# EAGLE library part DSPIC33EP512MU814-X_PH (library dspic33ep)
dsPIC33EP512MU814 16-bit Microcontrollers and Digital Signal Controllers (up to 512 KB Flash and 52 KB SRAM) with High-SpeedPWM, USB, and Advanced Analog
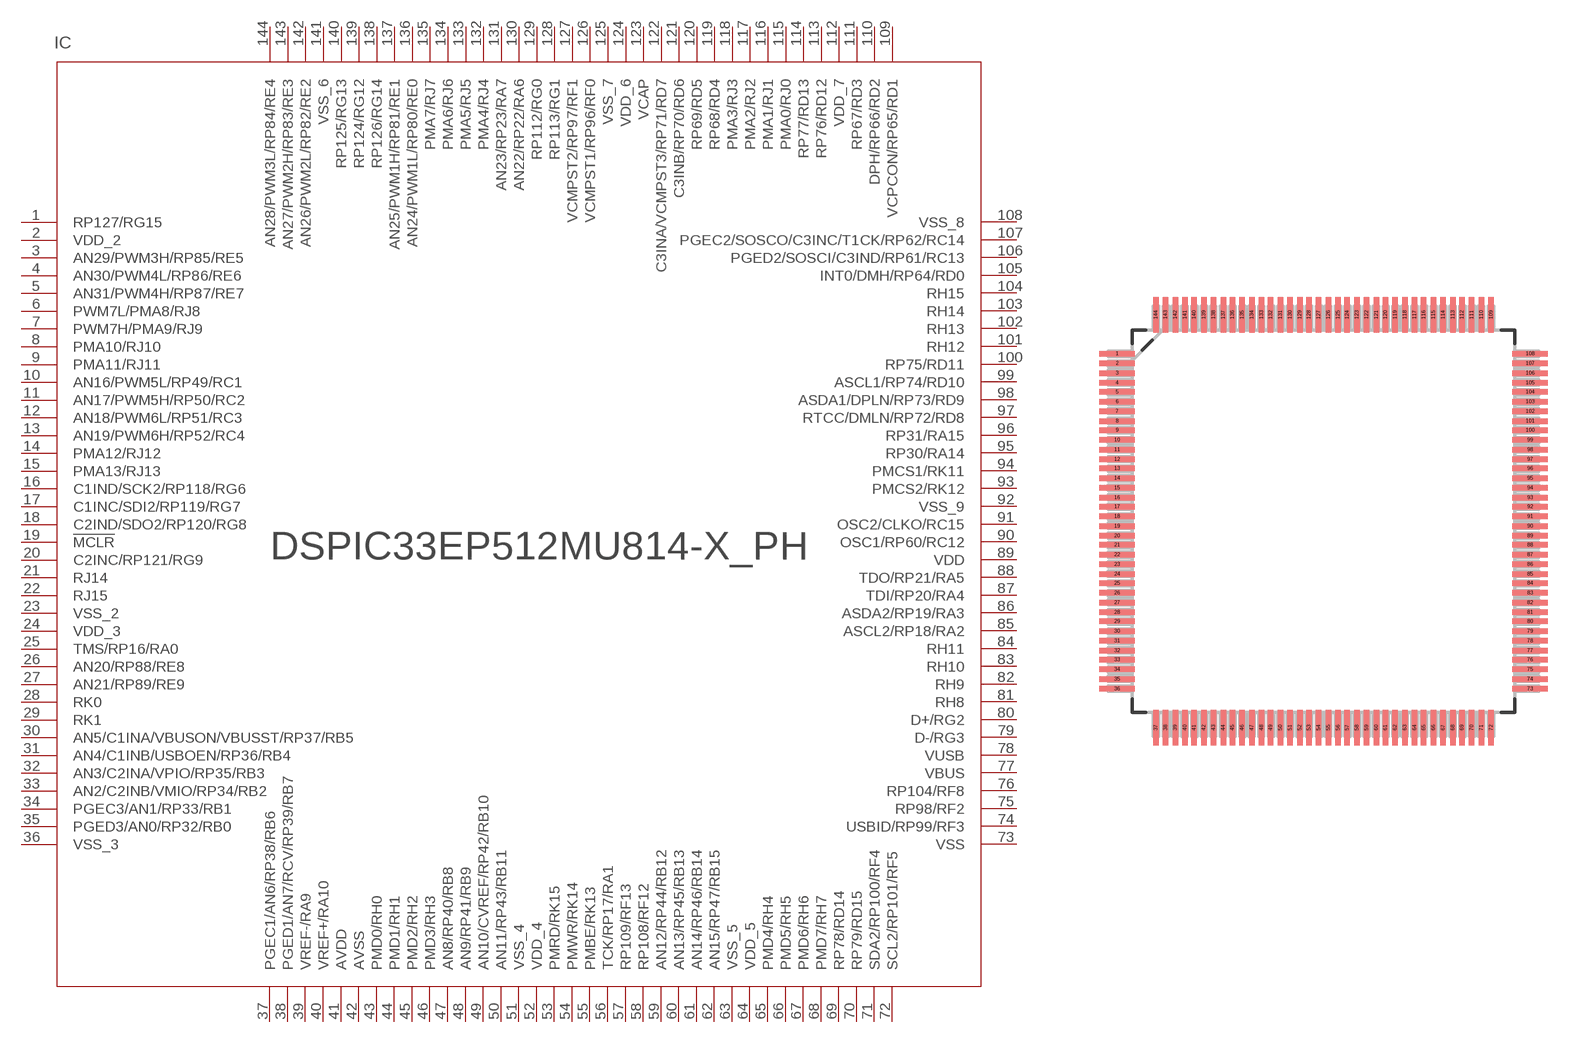
[diagram p0: symbol with the pads of TQFP144_16X16MC; footprint TQFP144_16X16MC]

Designator prefix IC

## DSPIC33EP512MU814-X_PH  [TQFP144_16X16MC]
1  RP127/RG15  pas
2  VDD_2  pwr
3  AN29/PWM3H/RP85/RE5  pas
4  AN30/PWM4L/RP86/RE6  pas
5  AN31/PWM4H/RP87/RE7  pas
6  PWM7L/PMA8/RJ8  pas
7  PWM7H/PMA9/RJ9  pas
8  PMA10/RJ10  pas
9  PMA11/RJ11  pas
10  AN16/PWM5L/RP49/RC1  pas
11  AN17/PWM5H/RP50/RC2  pas
12  AN18/PWM6L/RP51/RC3  pas
13  AN19/PWM6H/RP52/RC4  pas
14  PMA12/RJ12  pas
15  PMA13/RJ13  pas
16  C1IND/SCK2/RP118/RG6  pas
17  C1INC/SDI2/RP119/RG7  pas
18  C2IND/SDO2/RP120/RG8  pas
19  !MCLR  in
20  C2INC/RP121/RG9  pas
21  RJ14  pas
22  RJ15  pas
23  VSS_2  pwr
24  VDD_3  pwr
25  TMS/RP16/RA0  pas
26  AN20/RP88/RE8  pas
27  AN21/RP89/RE9  pas
28  RK0  pas
29  RK1  pas
30  AN5/C1INA/VBUSON/VBUSST/RP37/RB5  pas
31  AN4/C1INB/USBOEN/RP36/RB4  pas
32  AN3/C2INA/VPIO/RP35/RB3  pas
33  AN2/C2INB/VMIO/RP34/RB2  pas
34  PGEC3/AN1/RP33/RB1  pas
35  PGED3/AN0/RP32/RB0  pas
36  VSS_3  pwr
37  PGEC1/AN6/RP38/RB6  pas
38  PGED1/AN7/RCV/RP39/RB7  pas
39  VREF-/RA9  pas
40  VREF+/RA10  pas
41  AVDD  pwr
42  AVSS  pwr
43  PMD0/RH0  pas
44  PMD1/RH1  pas
45  PMD2/RH2  pas
46  PMD3/RH3  pas
47  AN8/RP40/RB8  pas
48  AN9/RP41/RB9  pas
49  AN10/CVREF/RP42/RB10  pas
50  AN11/RP43/RB11  pas
51  VSS_4  pwr
52  VDD_4  pwr
53  PMRD/RK15  pas
54  PMWR/RK14  pas
55  PMBE/RK13  pas
56  TCK/RP17/RA1  pas
57  RP109/RF13  pas
58  RP108/RF12  pas
59  AN12/RP44/RB12  pas
60  AN13/RP45/RB13  pas
61  AN14/RP46/RB14  pas
62  AN15/RP47/RB15  pas
63  VSS_5  pwr
64  VDD_5  pwr
65  PMD4/RH4  pas
66  PMD5/RH5  pas
67  PMD6/RH6  pas
68  PMD7/RH7  pas
69  RP78/RD14  pas
70  RP79/RD15  pas
71  SDA2/RP100/RF4  pas
72  SCL2/RP101/RF5  pas
73  VSS  pwr
74  USBID/RP99/RF3  pas
75  RP98/RF2  pas
76  RP104/RF8  pas
77  VBUS  pwr
78  VUSB  pwr
79  D-/RG3  pas
80  D+/RG2  pas
81  RH8  pas
82  RH9  pas
83  RH10  pas
84  RH11  pas
85  ASCL2/RP18/RA2  pas
86  ASDA2/RP19/RA3  pas
87  TDI/RP20/RA4  pas
88  TDO/RP21/RA5  pas
89  VDD  pwr
90  OSC1/RP60/RC12  pas
91  OSC2/CLKO/RC15  pas
92  VSS_9  pwr
93  PMCS2/RK12  pas
94  PMCS1/RK11  pas
95  RP30/RA14  pas
96  RP31/RA15  pas
97  RTCC/DMLN/RP72/RD8  pas
98  ASDA1/DPLN/RP73/RD9  pas
99  ASCL1/RP74/RD10  pas
100  RP75/RD11  pas
101  RH12  pas
102  RH13  pas
103  RH14  pas
104  RH15  pas
105  INT0/DMH/RP64/RD0  pas
106  PGED2/SOSCI/C3IND/RP61/RC13  pas
107  PGEC2/SOSCO/C3INC/T1CK/RP62/RC14  pas
108  VSS_8  pwr
109  VCPCON/RP65/RD1  pas
110  DPH/RP66/RD2  pas
111  RP67/RD3  pas
112  VDD_7  pwr
113  RP76/RD12  pas
114  RP77/RD13  pas
115  PMA0/RJ0  pas
116  PMA1/RJ1  pas
117  PMA2/RJ2  pas
118  PMA3/RJ3  pas
119  RP68/RD4  pas
120  RP69/RD5  pas
121  C3INB/RP70/RD6  pas
122  C3INA/VCMPST3/RP71/RD7  pas
123  VCAP  pwr
124  VDD_6  pwr
125  VSS_7  pwr
126  VCMPST1/RP96/RF0  pas
127  VCMPST2/RP97/RF1  pas
128  RP113/RG1  pas
129  RP112/RG0  pas
130  AN22/RP22/RA6  pas
131  AN23/RP23/RA7  pas
132  PMA4/RJ4  pas
133  PMA5/RJ5  pas
134  PMA6/RJ6  pas
135  PMA7/RJ7  pas
136  AN24/PWM1L/RP80/RE0  pas
137  AN25/PWM1H/RP81/RE1  pas
138  RP126/RG14  pas
139  RP124/RG12  pas
140  RP125/RG13  pas
141  VSS_6  pwr
142  AN26/PWM2L/RP82/RE2  pas
143  AN27/PWM2H/RP83/RE3  pas
144  AN28/PWM3L/RP84/RE4  pas

## Footprint TQFP144_16X16MC (pad centres in mm)
TQFP144 16X16
smd 1.473 x 0.229: 1 -8.636,7.01; 2 -8.636,6.604; 3 -8.636,6.198; 4 -8.636,5.791; 5 -8.636,5.41; 6 -8.636,5.004; 7 -8.636,4.597; 8 -8.636,4.191; 9 -8.636,3.81; 10 -8.636,3.404; 11 -8.636,2.997; 12 -8.636,2.591; 13 -8.636,2.21; 14 -8.636,1.803; 15 -8.636,1.397; 16 -8.636,0.991; 17 -8.636,0.61; 18 -8.636,0.203; 19 -8.636,-0.203; 20 -8.636,-0.61; 21 -8.636,-0.991; 22 -8.636,-1.397; 23 -8.636,-1.803; 24 -8.636,-2.21; 25 -8.636,-2.591; 26 -8.636,-2.997; 27 -8.636,-3.404; 28 -8.636,-3.81; 29 -8.636,-4.191; 30 -8.636,-4.597; 31 -8.636,-5.004; 32 -8.636,-5.41; 33 -8.636,-5.791; 34 -8.636,-6.198; 35 -8.636,-6.604; 36 -8.636,-7.01; 73 8.636,-7.01; 74 8.636,-6.604; 75 8.636,-6.198; 76 8.636,-5.791; 77 8.636,-5.41; 78 8.636,-5.004; 79 8.636,-4.597; 80 8.636,-4.191; 81 8.636,-3.81; 82 8.636,-3.404; 83 8.636,-2.997; 84 8.636,-2.591; 85 8.636,-2.21; 86 8.636,-1.803; 87 8.636,-1.397; 88 8.636,-0.991; 89 8.636,-0.61; 90 8.636,-0.203; 91 8.636,0.203; 92 8.636,0.61; 93 8.636,0.991; 94 8.636,1.397; 95 8.636,1.803; 96 8.636,2.21; 97 8.636,2.591; 98 8.636,2.997; 99 8.636,3.404; 100 8.636,3.81; 101 8.636,4.191; 102 8.636,4.597; 103 8.636,5.004; 104 8.636,5.41; 105 8.636,5.791; 106 8.636,6.198; 107 8.636,6.604; 108 8.636,7.01
smd 0.229 x 1.473: 37 -7.01,-8.636; 38 -6.604,-8.636; 39 -6.198,-8.636; 40 -5.791,-8.636; 41 -5.41,-8.636; 42 -5.004,-8.636; 43 -4.597,-8.636; 44 -4.191,-8.636; 45 -3.81,-8.636; 46 -3.404,-8.636; 47 -2.997,-8.636; 48 -2.591,-8.636; 49 -2.21,-8.636; 50 -1.803,-8.636; 51 -1.397,-8.636; 52 -0.991,-8.636; 53 -0.61,-8.636; 54 -0.203,-8.636; 55 0.203,-8.636; 56 0.61,-8.636; 57 0.991,-8.636; 58 1.397,-8.636; 59 1.803,-8.636; 60 2.21,-8.636; 61 2.591,-8.636; 62 2.997,-8.636; 63 3.404,-8.636; 64 3.81,-8.636; 65 4.191,-8.636; 66 4.597,-8.636; 67 5.004,-8.636; 68 5.41,-8.636; 69 5.791,-8.636; 70 6.198,-8.636; 71 6.604,-8.636; 72 7.01,-8.636; 109 7.01,8.636; 110 6.604,8.636; 111 6.198,8.636; 112 5.791,8.636; 113 5.41,8.636; 114 5.004,8.636; 115 4.597,8.636; 116 4.191,8.636; 117 3.81,8.636; 118 3.404,8.636; 119 2.997,8.636; 120 2.591,8.636; 121 2.21,8.636; 122 1.803,8.636; 123 1.397,8.636; 124 0.991,8.636; 125 0.61,8.636; 126 0.203,8.636; 127 -0.203,8.636; 128 -0.61,8.636; 129 -0.991,8.636; 130 -1.397,8.636; 131 -1.803,8.636; 132 -2.21,8.636; 133 -2.591,8.636; 134 -2.997,8.636; 135 -3.404,8.636; 136 -3.81,8.636; 137 -4.191,8.636; 138 -4.597,8.636; 139 -5.004,8.636; 140 -5.41,8.636; 141 -5.791,8.636; 142 -6.198,8.636; 143 -6.604,8.636; 144 -7.01,8.636